# EAGLE library part ADG451? (library adg451_adg452_adg453)
ANALOG DEVICES ADG451 LC2MOS SPST SWITCHES: 4 x NC "Case View" D=Drain, S=Source Case-Styles BRZ: SOIC 16 Standard Author: Dipl.-Ing. FH Rainer Bayer, rainer.bayer@hs-heilbronn.de
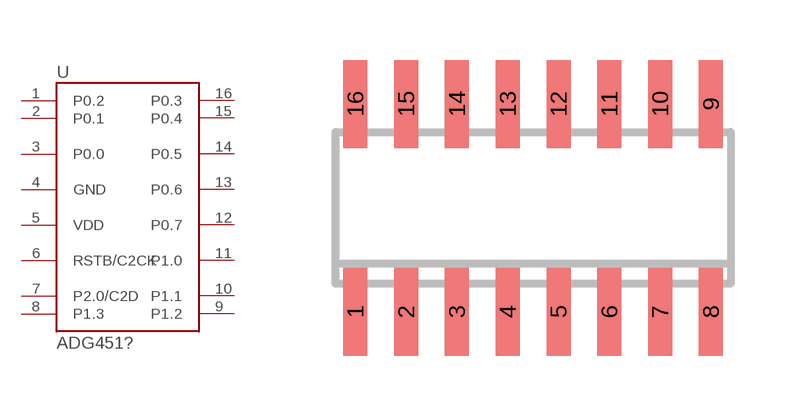
[diagram p3: symbol with the pads of SO16; footprint SO16]

Designator prefix U

## ADG451BRZ  [SO16]
1  P0.2  in
2  P0.1  hiz
3  P0.0  hiz
4  GND  pwr
5  VDD  pwr
6  RSTB/C2CK  hiz
7  P2.0/C2D  hiz
8  P1.3  in
9  P1.2  in
10  P1.1  hiz
11  P1.0  hiz
12  P0.7  pwr
13  P0.6  pwr
14  P0.5  hiz
15  P0.4  hiz
16  P0.3  in

## Footprint SO16 (pad centres in mm)
smd 0.6 x 2.2: 1 -4.445,-2.6; 2 -3.175,-2.6; 3 -1.905,-2.6; 4 -0.635,-2.6; 5 0.635,-2.6; 6 1.905,-2.6; 7 3.175,-2.6; 8 4.445,-2.6; 9 4.445,2.6; 10 3.175,2.6; 11 1.905,2.6; 12 0.635,2.6; 13 -0.635,2.6; 14 -1.905,2.6; 15 -3.175,2.6; 16 -4.445,2.6